# Altium footprint library CN Header 24 POS (12x2).PcbLib: 1 footprints
Each footprint in its own frame and in the unit in brackets; x right, y up, seen from the top. Pads: shape width x height; smd on the part's side, far side on the other; paste and mask are expansions set on the pad; w line width, h text height; cw(c..) or ccw(c..) is an arc to the next point about the centre after c.
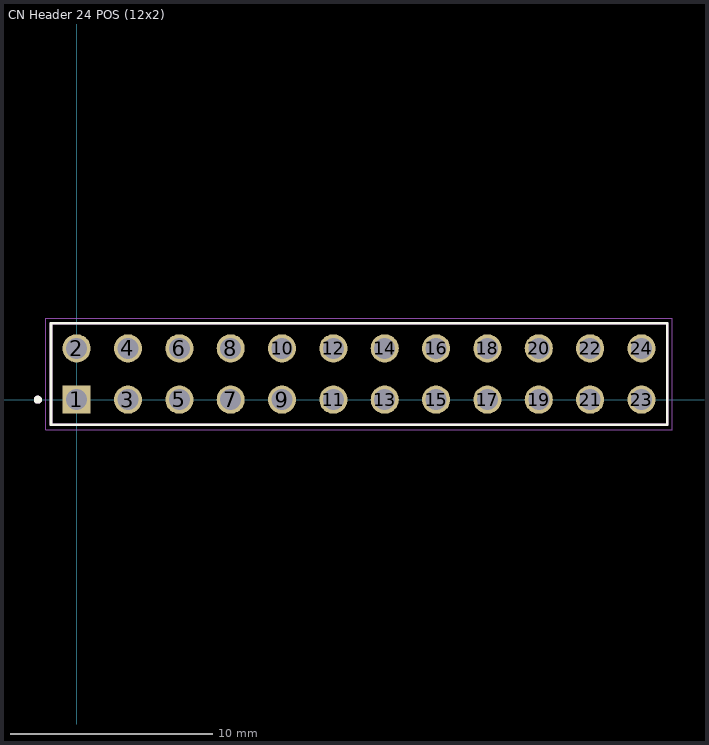
[diagram p0: the footprint, top view; thin cyan lines are the x and y axes]

## CN Header 24 POS (12x2) [mm] "24 position, dual row, standard 0.1\" (2.54mm) spacing."
pads (24):
  rect 1.39x1.39 hole 1.04: 1(0,0)
  round 1.39 hole 1.04: 2(0,2.54) 3(2.54,0) 4(2.54,2.54) 5(5.08,0) 6(5.08,2.54) 7(7.62,0) 8(7.62,2.54) 9(10.16,0) 10(10.16,2.54) 11(12.7,0) 12(12.7,2.54) 13(15.24,0) 14(15.24,2.54) 15(17.78,0) 16(17.78,2.54) 17(20.32,0) 18(20.32,2.54) 19(22.86,0) 20(22.86,2.54) 21(25.4,0) 22(25.4,2.54) 23(27.94,0) 24(27.94,2.54)
Top Overlay:
  circle w0.2: c-1.92,0 r0.1
  lines w0.127: -1.27,-1.23 29.21,-1.23 29.21,3.77 -1.27,3.77 -1.27,-1.23
Mechanical 13:
  circle w0.2: c-1.92,0 r0.1
  lines w0.127: -1.27,-1.23 -1.27,3.77 ; -1.27,-1.23 29.21,-1.23 ; -1.27,-1.23 -1.27,3.77 ; -1.27,3.77 29.21,3.77 ; -1.27,3.77 29.21,3.77 ; 29.21,-1.23 29.21,3.77 ; 29.21,-1.23 29.21,3.77
Mechanical 15:
  lines w0.05: -1.52,-1.48 29.46,-1.48 29.46,4.02 -1.52,4.02 -1.52,-1.48